# EAGLE library part NSD15-48S5 (library dc-dc-converter)
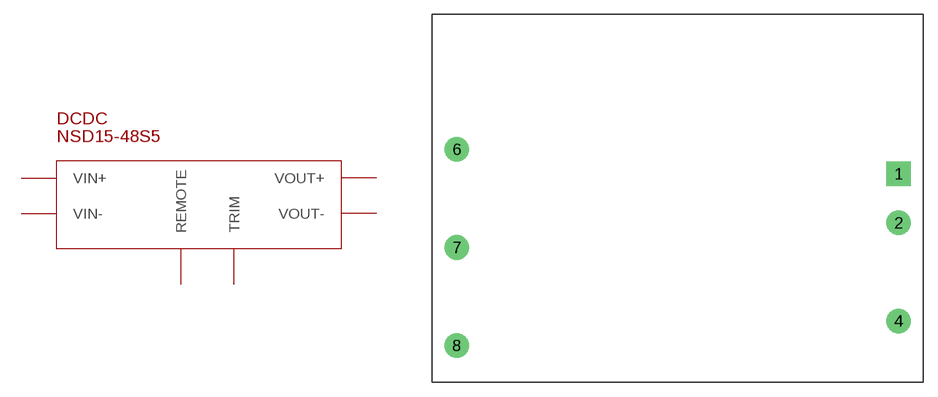
[diagram p9: symbol with the pads of NSD15-48S5; footprint NSD15-48S5]

Designator prefix DCDC

## NSD15-48S5  [NSD15-48S5]
1  VIN+
2  VIN-
4  REMOTE
6  VOUT+
7  VOUT-
8  TRIM

## Footprint NSD15-48S5 (pad centres in mm)
drill 1.27 pad 2.54 square: 1 48.26,-16.51
drill 1.27 pad 2.54: 2 48.26,-21.59; 4 48.26,-31.75; 6 2.54,-13.97; 7 2.54,-24.13; 8 2.54,-34.29